# Altium footprint library Virtex.PcbLib: 22 footprints (part 2 of 2)
Each footprint in its own frame and in the unit in brackets; x right, y up, seen from the top. Pads: shape width x height; smd on the part's side, far side on the other; paste and mask are expansions set on the pad; w line width, h text height; cw(c..) or ccw(c..) is an arc to the next point about the centre after c.
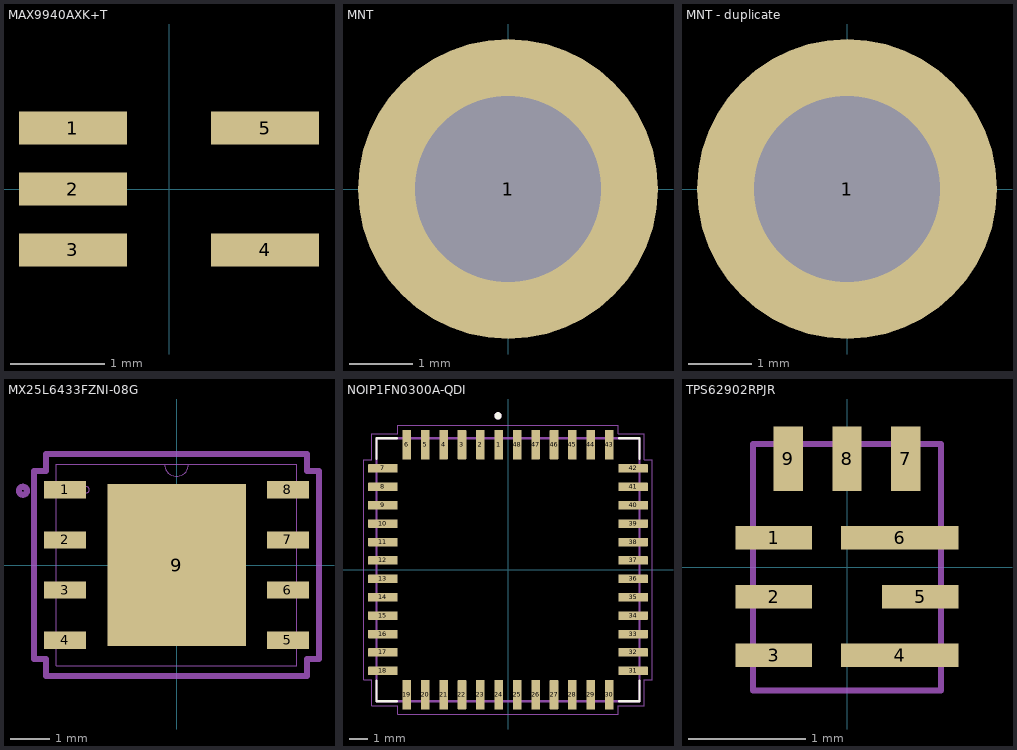
[diagram p1: the footprints below, top view; thin cyan lines are the x and y axes]

## MAX9940AXK+T [mm]
pads (5):
  rect 1.15x0.35 smd paste+0 mask+0: 1(-1.025,0.65) 2(-1.025,0) 3(-1.025,-0.65) 4(1.025,-0.65) 5(1.025,0.65)
3D body "MAX9940.step": height 1.09, standoff 0, extent -1.194,-1.105 1.194,1.105

## MNT [mil]
pads (1):
  round 187.5 hole 116: 1(0,0)

## MNT - duplicate [mil]
pads (1):
  round 187.5 hole 116: 1(0,0)
3D body "MNT_Spacer.step": height 196.85, standoff 0, extent -93.75,-93.75 93.75,93.75

## MX25L6433FZNI-08G [mil]
pads (9):
  rect 42x17 smd paste+0 mask+0: 1(-111,75) 2(-111,25) 3(-111,-25) 4(-111,-75) 5(111,-75) 6(111,-25) 7(111,25) 8(111,75)
  rect 138x161 smd paste+0 mask+0: 9(0,0)
Top Paste:
  region: 65.06,-30.77 3.94,-30.77 3.94,-76.56 65.06,-76.56
  region: 65.06,22.9 3.94,22.9 3.94,-22.9 65.06,-22.9
  region: 65.06,76.56 3.94,76.56 3.94,30.77 65.06,30.77
  region: -3.94,-30.77 -65.06,-30.77 -65.06,-76.56 -3.94,-76.56
  region: -3.94,22.9 -65.06,22.9 -65.06,-22.9 -3.94,-22.9
  region: -3.94,76.56 -65.06,76.56 -65.06,30.77 -3.94,30.77
Mechanical 13:
  circle w6: c-153,74 r4
  circle w0: c-90,75 r3
  lines w0: -12,100.5 ccw(c0,100.5) 12,100.5
  lines w1: -120,-100.5 -120,100.5 120,100.5 120,-100.5 -120,-100.5
Mechanical 15:
  lines w6: -142,-93.5 -130,-93.5 -130,-110.5 130,-110.5 130,-93.5 142,-93.5 142,93.5 130,93.5 130,110.5 -130,110.5 -130,93.5 -142,93.5 -142,-93.5
3D body: height 10, standoff 0, extent 0,0 10,10
3D body "MX25L3233FZNI-08Q.step": height 32.09, standoff 0, extent -120,-100.51 120,100.52

## NOIP1FN0300A-QDI [mm]
pads (48):
  rrect12% 0.47x1.63 smd: 1(-0.508,6.905) 2(-1.524,6.905) 3(-2.54,6.905) 4(-3.556,6.905) 5(-4.572,6.905) 6(-5.588,6.905) 19(-5.588,-6.905) 20(-4.572,-6.905) 21(-3.556,-6.905) 22(-2.54,-6.905) 23(-1.524,-6.905) 24(-0.508,-6.905) 25(0.508,-6.905) 26(1.524,-6.905) 27(2.54,-6.905) 28(3.556,-6.905) 29(4.572,-6.905) 30(5.588,-6.905) 43(5.588,6.905) 44(4.572,6.905) 45(3.556,6.905) 46(2.54,6.905) 47(1.524,6.905) 48(0.508,6.905)
  rrect12% 1.63x0.47 smd: 7(-6.905,5.588) 8(-6.905,4.572) 9(-6.905,3.556) 10(-6.905,2.54) 11(-6.905,1.524) 12(-6.905,0.508) 13(-6.905,-0.508) 14(-6.905,-1.524) 15(-6.905,-2.54) 16(-6.905,-3.556) 17(-6.905,-4.572) 18(-6.905,-5.588) 31(6.905,-5.588) 32(6.905,-4.572) 33(6.905,-3.556) 34(6.905,-2.54) 35(6.905,-1.524) 36(6.905,-0.508) 37(6.905,0.508) 38(6.905,1.524) 39(6.905,2.54) 40(6.905,3.556) 41(6.905,4.572) 42(6.905,5.588)
Top Overlay:
  circle w0.2: c-0.553,8.494 r0.1
  lines w0.127: -7.26,-6.127 -7.26,-7.26 -6.127,-7.26 ; -7.26,6.127 -7.26,7.26 -6.127,7.26 ; 6.127,-7.26 7.26,-7.26 7.26,-6.127 ; 6.127,7.26 7.26,7.26 7.26,6.127
Mechanical 13:
  circle w0.2: c-0.553,8.494 r0.1
  lines w0.127: -7.26,-7.26 -7.26,7.26 7.26,7.26 7.26,-7.26 -7.26,-7.26
Mechanical 15:
  lines w0.05: -7.97,-6.08 -7.51,-6.08 -7.51,-7.51 -6.08,-7.51 -6.08,-7.97 6.08,-7.97 6.08,-7.51 7.51,-7.51 7.51,-6.08 7.97,-6.08 7.97,6.08 7.51,6.08 7.51,7.51 6.08,7.51 6.08,7.97 -6.08,7.97 -6.08,7.51 -7.51,7.51 -7.51,6.08 -7.97,6.08 -7.97,-6.08
3D body "NOIP1FN0300A-QDI.step": height 2.28, standoff 0, extent -7.11,-7.11 7.11,7.11

## TPS62902RPJR [mm]
pads (9):
  rrect1% 0.65x0.2 smd: 1(-0.625,0.25) 2(-0.625,-0.25) 3(-0.625,-0.75) 5(0.625,-0.25)
  rrect1% 1x0.2 smd: 4(0.45,-0.75) 6(0.45,0.25)
  rrect1% 0.25x0.55 smd: 7(0.5,0.925) 8(0,0.925) 9(-0.5,0.925)
Mechanical 15:
  lines w0.05: -0.8,-1.05 -0.8,1.05 0.8,1.05 0.8,-1.05 -0.8,-1.05
3D body "TPS62902.stp": height 0.9, standoff 0, extent -0.75,-1 0.75,1